# Altium footprint library my lib.PcbLib: 12 footprints
Each footprint in its own frame and in the unit in brackets; x right, y up, seen from the top. Pads: shape width x height; smd on the part's side, far side on the other; paste and mask are expansions set on the pad; w line width, h text height; cw(c..) or ccw(c..) is an arc to the next point about the centre after c.
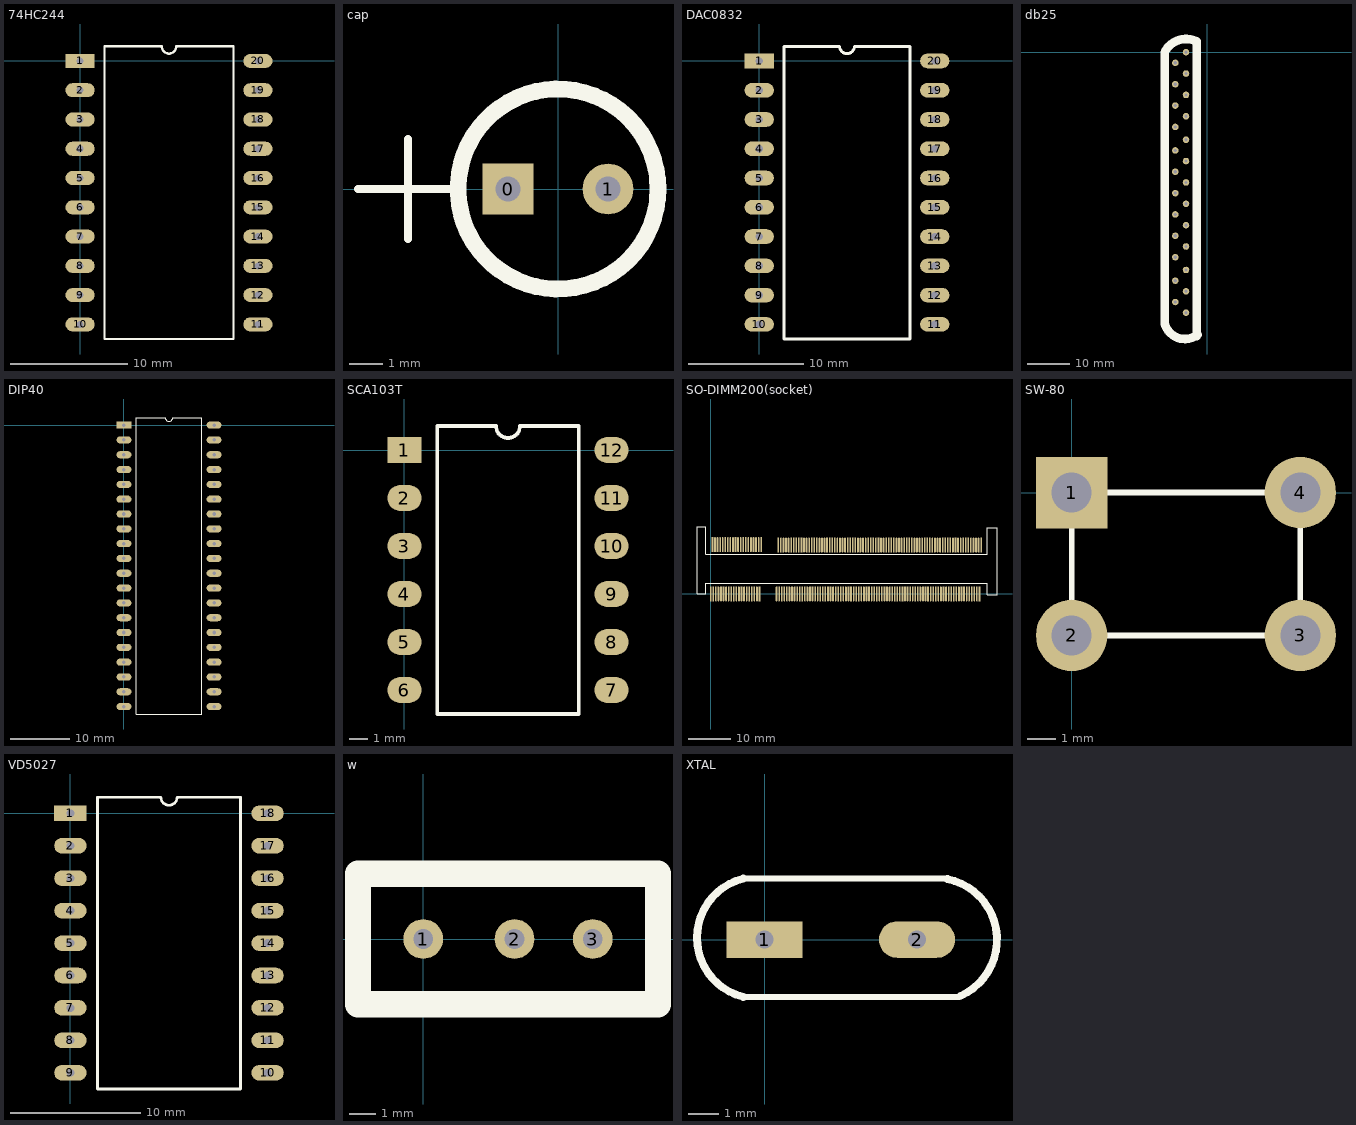
[diagram p0: the footprints below, top view; thin cyan lines are the x and y axes]

## 74HC244 [mm] "74HC244"
pads (20):
  rect 2.5x1.2 hole 0.6: 1(0,0)
  oval 2.5x1.2 hole 0.6: 2(0,-2.5) 3(0,-5) 4(0,-7.5) 5(0,-10) 6(0,-12.5) 7(0,-15) 8(0,-17.5) 9(0,-20) 10(0,-22.5) 11(15.2,-22.5) 12(15.2,-20) 13(15.2,-17.5) 14(15.2,-15) 15(15.2,-12.5) 16(15.2,-10) 17(15.2,-7.5) 18(15.2,-5) 19(15.2,-2.5) 20(15.2,0)
Top Overlay:
  lines w0.2: 2.085,-23.75 13.115,-23.75 13.115,1.25 8.225,1.25 cw(c7.6,1.25) 6.975,1.25 2.085,1.25 2.085,-23.75

## cap [mil]
pads (2):
  rect 60x60 hole 30: 0(-59.06,0)
  round 60 hole 30: 1(59.06,0)
Top Overlay:
  circle w19.68: c0,0 r118.11
  lines w9.84: -236.22,0 -118.11,0 ; -177.17,-59.06 -177.17,0 -177.17,59.06
Multi-Layer:
  text "Cap" at -118.11,-177.17 h60

## DAC0832 [mm]
pads (20):
  rect 2.54x1.27 hole 0.635: 1(0,0)
  oval 2.54x1.27 hole 0.635: 2(0,-2.54) 3(0,-5.08) 4(0,-7.62) 5(0,-10.16) 6(0,-12.7) 7(0,-15.24) 8(0,-17.78) 9(0,-20.32) 10(0,-22.86) 11(15.24,-22.86) 12(15.24,-20.32) 13(15.24,-17.78) 14(15.24,-15.24) 15(15.24,-12.7) 16(15.24,-10.16) 17(15.24,-7.62) 18(15.24,-5.08) 19(15.24,-2.54) 20(15.24,0)
Top Overlay:
  lines w0.254: 2.159,-24.13 2.159,1.27 6.985,1.27 ccw(c7.62,1.27) 8.255,1.27 13.081,1.27 13.081,-24.13 2.159,-24.13

## db25 [mil] "db25"
pads (25):
  round 60 hole 30: 1(-196.85,0) 2(-196.85,-196.85) 3(-196.85,-393.7) 4(-196.85,-590.55) 5(-196.85,-807.09) 6(-196.85,-1003.94) 7(-196.85,-1200.79) 8(-196.85,-1397.64) 9(-196.85,-1594.49) 10(-196.85,-1791.34) 11(-196.85,-2007.87) 12(-196.85,-2204.72) 13(-196.85,-2401.57) 14(-295.28,-98.43) 15(-295.28,-295.28) 16(-295.28,-492.13) 17(-295.28,-688.98) 18(-295.28,-905.51) 19(-295.28,-1102.36) 20(-295.28,-1299.21) 21(-295.28,-1496.06) 22(-295.28,-1692.91) 23(-295.28,-1889.76) 24(-295.28,-2106.3) 25(-295.28,-2303.15)
Top Overlay:
  lines w10: -137.8,-2637.8 ccw(c-127.95,-2627.95) -118.11,-2637.8
  lines w78.74: -98.43,-2618.11 -98.43,98.43 ccw(c-196.85,-98.43) -393.7,0 -393.7,-2500 ccw(c-206.69,-2450.79) -89.23,-2604.4

## DIP40 [mm]
pads (40):
  rect 2.5x1.2 hole 0.6: 1(0,0)
  oval 2.5x1.2 hole 0.6: 2(0,-2.5) 3(0,-5) 4(0,-7.5) 5(0,-10) 6(0,-12.5) 7(0,-15) 8(0,-17.5) 9(0,-20) 10(0,-22.5) 11(0,-25) 12(0,-27.5) 13(0,-30) 14(0,-32.5) 15(0,-35) 16(0,-37.5) 17(0,-40) 18(0,-42.5) 19(0,-45) 20(0,-47.5) 21(15.2,-47.5) 22(15.2,-45) 23(15.2,-42.5) 24(15.2,-40) 25(15.2,-37.5) 26(15.2,-35) 27(15.2,-32.5) 28(15.2,-30) 29(15.2,-27.5) 30(15.2,-25) 31(15.2,-22.5) 32(15.2,-20) 33(15.2,-17.5) 34(15.2,-15) 35(15.2,-12.5) 36(15.2,-10) 37(15.2,-7.5) 38(15.2,-5) 39(15.2,-2.5) 40(15.2,0)
Top Overlay:
  lines w0.2: 2.085,-48.75 2.085,1.25 6.975,1.25 ccw(c7.6,1.25) 8.225,1.25 13.115,1.25 13.115,-48.75 2.085,-48.75

## PCBComponent_1 [mm]

## SCA103T [mm] "Inclinometer"
pads (12):
  rect 1.81x1.39 smd: 1(0,0)
  oval 1.81x1.39 smd: 2(0,-2.54) 3(0,-5.08) 4(0,-7.62) 5(0,-10.16) 6(0,-12.7) 7(10.96,-12.7) 8(10.96,-10.16) 9(10.96,-7.62) 10(10.96,-5.08) 11(10.96,-2.54) 12(10.96,0)
Top Overlay:
  lines w0.2: 1.74,-13.97 9.22,-13.97 9.22,1.27 6.115,1.27 cw(c5.48,1.27) 4.845,1.27 1.74,1.27 1.74,-13.97

## SO-DIMM200(socket) [mm] "SO-DIMM200(socket)"
pads (200):
  rect 0.4x3.5 smd: A1(0,0) A10(5.4,0) A20(11.4,0) A30(20.8,0) A40(26.8,0) A50(32.8,0) A60(38.8,0) A70(44.8,0) A80(50.8,0) A90(56.8,0) A100(62.8,0) B1(0.4,11.5) B10(5.8,11.5) B20(11.8,11.5) B30(21.2,11.4) B40(27.2,11.4) B50(33.2,11.4) B60(39.2,11.4) B70(45.2,11.4) B80(51.2,11.4) B90(57.2,11.4) B100(63.2,11.4)
  oval 0.4x3.5 smd: A2(0.6,0) A3(1.2,0) A4(1.8,0) A5(2.4,0) A6(3,0) A7(3.6,0) A8(4.2,0) A9(4.8,0) A11(6,0) A12(6.6,0) A13(7.2,0) A14(7.8,0) A15(8.4,0) A16(9,0) A17(9.6,0) A18(10.2,0) A19(10.8,0) A21(15.4,0) A22(16,0) A23(16.6,0) A24(17.2,0) A25(17.8,0) A26(18.4,0) A27(19,0) A28(19.6,0) A29(20.2,0) A31(21.4,0) A32(22,0) A33(22.6,0) A34(23.2,0) A35(23.8,0) A36(24.4,0) A37(25,0) A38(25.6,0) A39(26.2,0) A41(27.4,0) A42(28,0) A43(28.6,0) A44(29.2,0) A45(29.8,0) A46(30.4,0) A47(31,0) A48(31.6,0) A49(32.2,0) A51(33.4,0) A52(34,0) A53(34.6,0) A54(35.2,0) A55(35.8,0) A56(36.4,0) A57(37,0) A58(37.6,0) A59(38.2,0) A61(39.4,0) A62(40,0) A63(40.6,0) A64(41.2,0) A65(41.8,0) A66(42.4,0) A67(43,0) A68(43.6,0) A69(44.2,0) A71(45.4,0) A72(46,0) A73(46.6,0) A74(47.2,0) A75(47.8,0) A76(48.4,0) A77(49,0) A78(49.6,0) A79(50.2,0) A81(51.4,0) A82(52,0) A83(52.6,0) A84(53.2,0) A85(53.8,0) A86(54.4,0) A87(55,0) A88(55.6,0) A89(56.2,0) A91(57.4,0) A92(58,0) A93(58.6,0) A94(59.2,0) A95(59.8,0) A96(60.4,0) A97(61,0) A98(61.6,0) A99(62.2,0) B2(1,11.5) B3(1.6,11.5) B4(2.2,11.5) B5(2.8,11.5) B6(3.4,11.5) B7(4,11.5) B8(4.6,11.5) B9(5.2,11.5) B11(6.4,11.5) B12(7,11.5) B13(7.6,11.5) B14(8.2,11.5) B15(8.8,11.5) B16(9.4,11.5) B17(10,11.5) B18(10.6,11.5) B19(11.2,11.5) B21(15.8,11.4) B22(16.4,11.4) B23(17,11.4) B24(17.6,11.4) B25(18.2,11.4) B26(18.8,11.4) B27(19.4,11.4) B28(20,11.4) B29(20.6,11.4) B31(21.8,11.4) B32(22.4,11.4) B33(23,11.4) B34(23.6,11.4) B35(24.2,11.4) B36(24.8,11.4) B37(25.4,11.4) B38(26,11.4) B39(26.6,11.4) B41(27.8,11.4) B42(28.4,11.4) B43(29,11.4) B44(29.6,11.4) B45(30.2,11.4) B46(30.8,11.4) B47(31.4,11.4) B48(32,11.4) B49(32.6,11.4) B51(33.8,11.4) B52(34.4,11.4) B53(35,11.4) B54(35.6,11.4) B55(36.2,11.4) B56(36.8,11.4) B57(37.4,11.4) B58(38,11.4) B59(38.6,11.4) B61(39.8,11.4) B62(40.4,11.4) B63(41,11.4) B64(41.6,11.4) B65(42.2,11.4) B66(42.8,11.4) B67(43.4,11.4) B68(44,11.4) B69(44.6,11.4) B71(45.8,11.4) B72(46.4,11.4) B73(47,11.4) B74(47.6,11.4) B75(48.2,11.4) B76(48.8,11.4) B77(49.4,11.4) B78(50,11.4) B79(50.6,11.4) B81(51.8,11.4) B82(52.4,11.4) B83(53,11.4) B84(53.6,11.4) B85(54.2,11.4) B86(54.8,11.4) B87(55.4,11.4) B88(56,11.4) B89(56.6,11.4) B91(57.8,11.4) B92(58.4,11.4) B93(59,11.4) B94(59.6,11.4) B95(60.2,11.4) B96(60.8,11.4) B97(61.4,11.4) B98(62,11.4) B99(62.6,11.4)
Top Overlay:
  lines w0.2: 66.9,-0.2 64.6,-0.2 64.6,2.5 -1.1,2.5 -1.1,0 -3.2,0 -3.2,7.6 -3.2,12 -3.2,15.7 -1.6,15.7 -1.1,15.7 -1.1,9.2 64.6,9.2 64.6,15.5 66.9,15.5 66.9,-0.1

## SW-80 [mm]
pads (4):
  rect 2.5x2.5 hole 1.4: 1(0,0)
  round 2.5 hole 1.4: 2(0,-5) 3(8,-5) 4(8,0)
Top Overlay:
  lines w0.2: 0,-5.08 0,0 8,0 8,-5 0,-5

## VD5027 [mm]
pads (18):
  rect 2.5x1.2 hole 0.6: 1(0,0)
  oval 2.5x1.2 hole 0.6: 2(0,-2.5) 3(0,-5) 4(0,-7.5) 5(0,-10) 6(0,-12.5) 7(0,-15) 8(0,-17.5) 9(0,-20) 10(15.2,-20) 11(15.2,-17.5) 12(15.2,-15) 13(15.2,-12.5) 14(15.2,-10) 15(15.2,-7.5) 16(15.2,-5) 17(15.2,-2.5) 18(15.2,0)
Top Overlay:
  lines w0.2: 2.085,-21.25 2.085,1.25 6.975,1.25 ccw(c7.6,1.25) 8.225,1.25 13.115,1.25 13.115,-21.25 2.085,-21.25

## w [mil] "vara resistor"
pads (3):
  round 60 hole 30: 1(0,0) 2(137.8,0) 3(255.91,0)
Top Overlay:
  lines w39.37: -98.43,-98.43 -98.43,98.43 354.33,98.43 354.33,-98.43 -98.43,-98.43

## XTAL [mm] "XTAL"
pads (2):
  rect 2.5x1.2 hole 0.6: 1(0,0)
  oval 2.5x1.2 hole 0.6: 2(5,0)
Top Overlay:
  lines w0.2: -0.7,-1.881 6.397,-1.881 6.437,-1.841 ; -0.7,2 6,2
  lines w0.254: -0.7,-1.881 cw(c-0.215,0.06) -0.7,2 ; 5.997,1.983 cw(c5.6,0) 6.437,-1.841